# EAGLE library part LOGIC_TC7WU04 (library akita)
Toshiba, 3xInverter
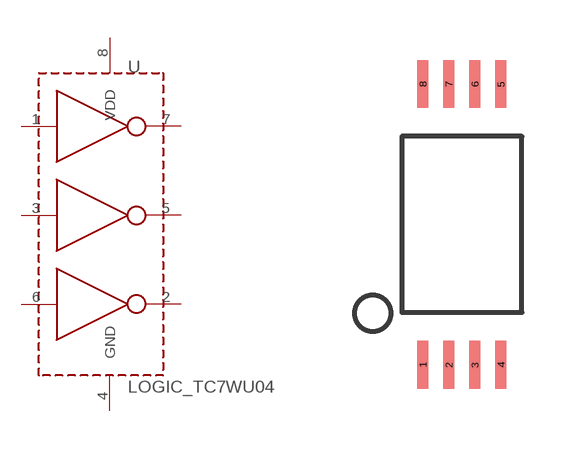
[diagram p150: symbol with the pads of TSSOP8W; footprint TSSOP8W]

Designator prefix U

## LOGIC_TC7WU04FU  [TSSOP8W]
1  1A
2  3Y
3  2A
4  GND
5  2Y
6  3A
7  1Y
8  VDD

## Footprint TSSOP8W (pad centres in mm)
TSSOP8, wide (4mm)
smd 0.27 x 1.2: 1 -0.975,-3.51; 2 -0.325,-3.51; 3 0.325,-3.51; 4 0.975,-3.51; 5 0.975,3.51; 6 0.325,3.51; 7 -0.325,3.51; 8 -0.975,3.51